# Altium schematic symbol library SCH - MCU - STM32 - ST MICROELECTRONICS STM32U535NEYXQ WLCSP56.SchLib: 1 symbol
Pins are listed as number, name and electrical type; pins without a type are passive.

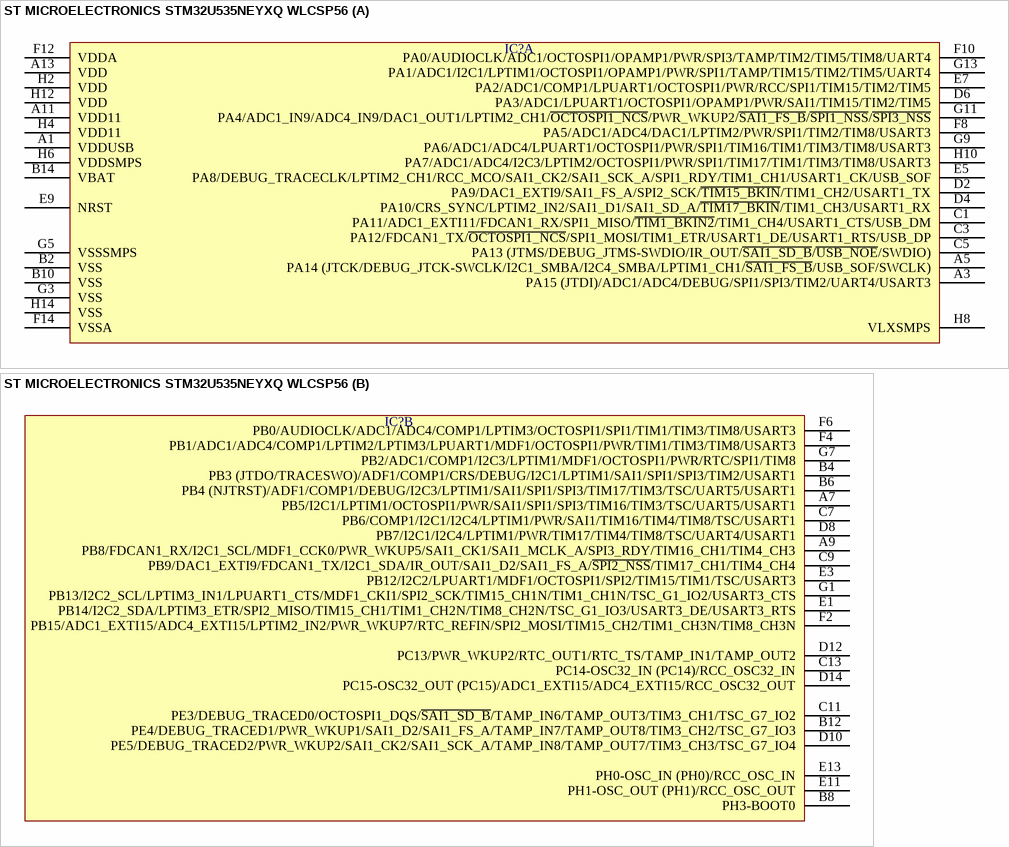
[diagram p0: symbol ST MICROELECTRONICS STM32U535NEYXQ WLCSP56]

## ST MICROELECTRONICS STM32U535NEYXQ WLCSP56
designator IC?
part A pins: A1 VDDUSB, A3 PA15 (JTDI)/ADC1/ADC4/DEBUG/SPI1/SPI3/TIM2/UART4/USART3, A5 PA14 (JTCK/DEBUG_JTCK-SWCLK/I2C1_SMBA/I2C4_SMBA/LPTIM1_CH1/~{SAI1_FS_B}/USB_SOF/SWCLK), A11 VDD11, A13 VDD, B2 VSS, B10 VSS, B14 VBAT, C1 PA11/ADC1_EXTI11/FDCAN1_RX/SPI1_MISO/~{TIM1_BKIN2}/TIM1_CH4/USART1_CTS/USB_DM, C3 PA12/FDCAN1_TX/~{OCTOSPI1_NCS}/SPI1_MOSI/TIM1_ETR/USART1_DE/USART1_RTS/USB_DP, C5 PA13 (JTMS/DEBUG_JTMS-SWDIO/IR_OUT/~{SAI1_SD_B}/~{USB_NOE}/SWDIO), D2 PA9/DAC1_EXTI9/SAI1_FS_A/SPI2_SCK/~{TIM15_BKIN}/TIM1_CH2/USART1_TX, D4 PA10/CRS_SYNC/LPTIM2_IN2/SAI1_D1/SAI1_SD_A/~{TIM17_BKIN}/TIM1_CH3/USART1_RX, D6 PA3/ADC1/LPUART1/OCTOSPI1/OPAMP1/PWR/SAI1/TIM15/TIM2/TIM5, E5 PA8/DEBUG_TRACECLK/LPTIM2_CH1/RCC_MCO/SAI1_CK2/SAI1_SCK_A/SPI1_RDY/TIM1_CH1/USART1_CK/USB_SOF, E7 PA2/ADC1/COMP1/LPUART1/OCTOSPI1/PWR/RCC/SPI1/TIM15/TIM2/TIM5, E9 NRST, F8 PA5/ADC1/ADC4/DAC1/LPTIM2/PWR/SPI1/TIM2/TIM8/USART3, F10 PA0/AUDIOCLK/ADC1/OCTOSPI1/OPAMP1/PWR/SPI3/TAMP/TIM2/TIM5/TIM8/UART4, F12 VDDA, F14 VSSA, G3 VSS, G5 VSSSMPS, G9 PA6/ADC1/ADC4/LPUART1/OCTOSPI1/PWR/SPI1/TIM16/TIM1/TIM3/TIM8/USART3, G11 PA4/ADC1_IN9/ADC4_IN9/DAC1_OUT1/LPTIM2_CH1/~{OCTOSPI1_NCS}/PWR_WKUP2/~{SAI1_FS_B}/~{SPI1_NSS}/~{SPI3_NSS}, G13 PA1/ADC1/I2C1/LPTIM1/OCTOSPI1/OPAMP1/PWR/SPI1/TAMP/TIM15/TIM2/TIM5/UART4, H2 VDD, H4 VDD11, H6 VDDSMPS, H8 VLXSMPS, H10 PA7/ADC1/ADC4/I2C3/LPTIM2/OCTOSPI1/PWR/SPI1/TIM17/TIM1/TIM3/TIM8/USART3, H12 VDD, H14 VSS
part B pins: A7 PB5/I2C1/LPTIM1/OCTOSPI1/PWR/SAI1/SPI1/SPI3/TIM16/TIM3/TSC/UART5/USART1, A9 PB8/FDCAN1_RX/I2C1_SCL/MDF1_CCK0/PWR_WKUP5/SAI1_CK1/SAI1_MCLK_A/SPI3_RDY/TIM16_CH1/TIM4_CH3, B4 PB3 (JTDO/TRACESWO)/ADF1/COMP1/CRS/DEBUG/I2C1/LPTIM1/SAI1/SPI1/SPI3/TIM2/USART1, B6 PB4 (NJTRST)/ADF1/COMP1/DEBUG/I2C3/LPTIM1/SAI1/SPI1/SPI3/TIM17/TIM3/TSC/UART5/USART1, B8 PH3-BOOT0, B12 PE4/DEBUG_TRACED1/PWR_WKUP1/SAI1_D2/SAI1_FS_A/TAMP_IN7/TAMP_OUT8/TIM3_CH2/TSC_G7_IO3, C7 PB6/COMP1/I2C1/I2C4/LPTIM1/PWR/SAI1/TIM16/TIM4/TIM8/TSC/USART1, C9 PB9/DAC1_EXTI9/FDCAN1_TX/I2C1_SDA/IR_OUT/SAI1_D2/SAI1_FS_A/~{SPI2_NSS}/TIM17_CH1/TIM4_CH4, C11 PE3/DEBUG_TRACED0/OCTOSPI1_DQS/~{SAI1_SD_B}/TAMP_IN6/TAMP_OUT3/TIM3_CH1/TSC_G7_IO2, C13 PC14-OSC32_IN (PC14)/RCC_OSC32_IN, D8 PB7/I2C1/I2C4/LPTIM1/PWR/TIM17/TIM4/TIM8/TSC/UART4/USART1, D10 PE5/DEBUG_TRACED2/PWR_WKUP2/SAI1_CK2/SAI1_SCK_A/TAMP_IN8/TAMP_OUT7/TIM3_CH3/TSC_G7_IO4, D12 PC13/PWR_WKUP2/RTC_OUT1/RTC_TS/TAMP_IN1/TAMP_OUT2, D14 PC15-OSC32_OUT (PC15)/ADC1_EXTI15/ADC4_EXTI15/RCC_OSC32_OUT, E1 PB14/I2C2_SDA/LPTIM3_ETR/SPI2_MISO/TIM15_CH1/TIM1_CH2N/TIM8_CH2N/TSC_G1_IO3/USART3_DE/USART3_RTS, E3 PB12/I2C2/LPUART1/MDF1/OCTOSPI1/SPI2/TIM15/TIM1/TSC/USART3, E11 PH1-OSC_OUT (PH1)/RCC_OSC_OUT, E13 PH0-OSC_IN (PH0)/RCC_OSC_IN, F2 PB15/ADC1_EXTI15/ADC4_EXTI15/LPTIM2_IN2/PWR_WKUP7/RTC_REFIN/SPI2_MOSI/TIM15_CH2/TIM1_CH3N/TIM8_CH3N, F4 PB1/ADC1/ADC4/COMP1/LPTIM2/LPTIM3/LPUART1/MDF1/OCTOSPI1/PWR/TIM1/TIM3/TIM8/USART3, F6 PB0/AUDIOCLK/ADC1/ADC4/COMP1/LPTIM3/OCTOSPI1/SPI1/TIM1/TIM3/TIM8/USART3, G1 PB13/I2C2_SCL/LPTIM3_IN1/LPUART1_CTS/MDF1_CKI1/SPI2_SCK/TIM15_CH1N/TIM1_CH1N/TSC_G1_IO2/USART3_CTS, G7 PB2/ADC1/COMP1/I2C3/LPTIM1/MDF1/OCTOSPI1/PWR/RTC/SPI1/TIM8